# Altium footprint library Molex_39_28_1083_0.PcbLib: 1 footprints
Each footprint in its own frame and in the unit in brackets; x right, y up, seen from the top. Pads: shape width x height; smd on the part's side, far side on the other; paste and mask are expansions set on the pad; w line width, h text height; cw(c..) or ccw(c..) is an arc to the next point about the centre after c.
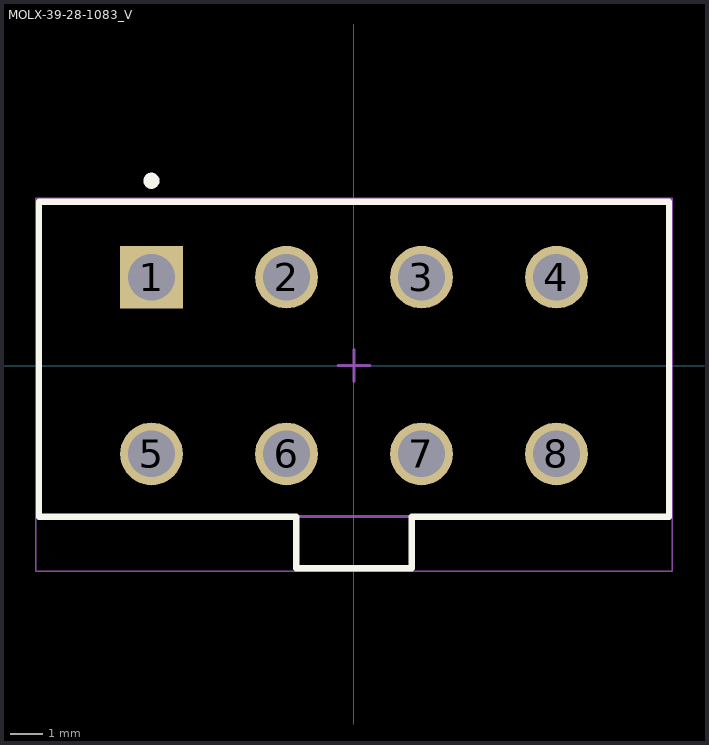
[diagram p0: the footprint, top view; thin cyan lines are the x and y axes]

## MOLX-39-28-1083_V [mm] "PCB Header, 8-Leads, Vertical, Pitch 4.2 mm, Through Hole"
height 13.1
pads (8):
  rect 1.95x1.95 hole 1.45: 1(-6.3,2.75)
  round 1.95 hole 1.45: 2(-2.1,2.75) 3(2.1,2.75) 4(6.3,2.75) 5(-6.3,-2.75) 6(-2.1,-2.75) 7(2.1,-2.75) 8(6.3,-2.75)
Top Overlay:
  circle w0.25: c-6.3,5.75 r0.125
  lines w0.2: -9.8,-4.7 -1.8,-4.7 -1.8,-6.3 1.8,-6.3 1.8,-4.7 9.8,-4.7 9.8,5.1 -9.8,5.1 -9.8,-4.7
Mechanical 13:
  lines w0.1: -1.8,-4.7 -1.8,-6.3 1.8,-6.3 1.8,-4.7 ; -9.8,-4.7 -9.8,5.1 9.8,5.1 9.8,-4.7 -9.8,-4.7
Mechanical 15:
  lines w0.05: -9.9,-6.4 -9.9,5.2 9.9,5.2 9.9,-6.4 -9.9,-6.4
  lines w0.1: -0.5,0 0.5,0 ; 0,-0.5 0,0.5
3D body: height 12.8, standoff -3.5, extent -9.4,-6 9.4,5